# Altium footprint library Small Outline Diode - 2 Z-Bend Leads.PcbLib: 1 footprints
Each footprint in its own frame and in the unit in brackets; x right, y up, seen from the top. Pads: shape width x height; smd on the part's side, far side on the other; paste and mask are expansions set on the pad; w line width, h text height; cw(c..) or ccw(c..) is an arc to the next point about the centre after c.
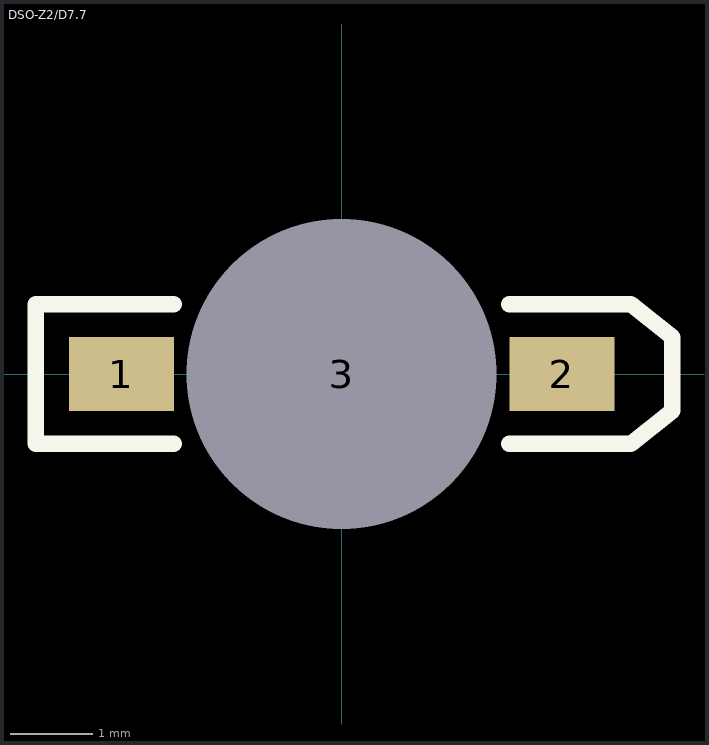
[diagram p0: the footprint, top view; thin cyan lines are the x and y axes]

## DSO-Z2/D7.7 [mm] "SM LED; 2 Z-Bend Leads"
pads (3):
  rect 1.27x0.89 smd: 1(-2.665,0) 2(2.665,0)
  round 3.45 hole 3.75 unplated: 3(0,0)
Top Overlay:
  lines w0.2: -2.03,-0.845 -3.7,-0.845 -3.7,0.845 -2.03,0.845 ; 2.03,-0.845 3.5,-0.845 4,-0.445 4,0.445 3.5,0.845 2.03,0.845